# Altium footprint library THERMISTOR.PcbLib: 1 footprints
Each footprint in its own frame and in the unit in brackets; x right, y up, seen from the top. Pads: shape width x height; smd on the part's side, far side on the other; paste and mask are expansions set on the pad; w line width, h text height; cw(c..) or ccw(c..) is an arc to the next point about the centre after c.
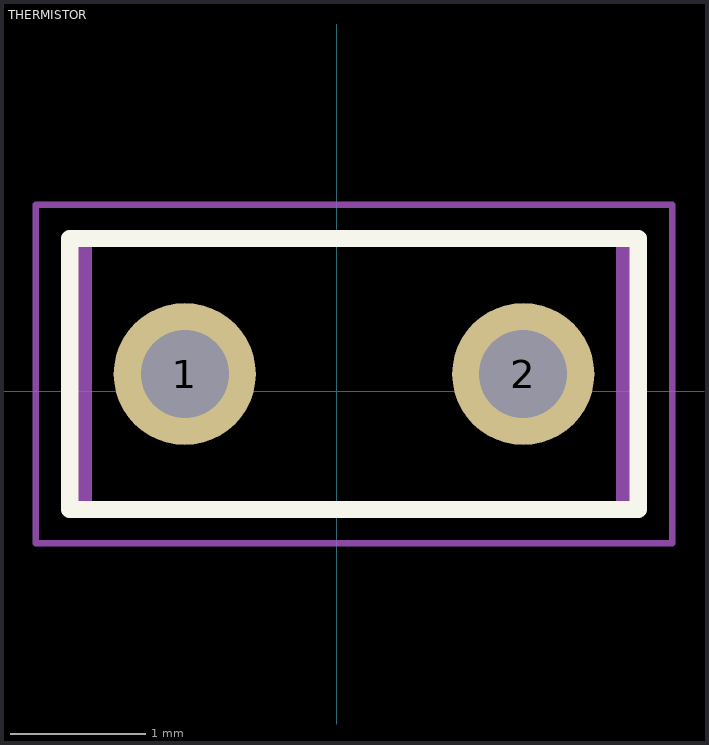
[diagram p0: the footprint, top view; thin cyan lines are the x and y axes]

## THERMISTOR [mm]
pads (2):
  round 1.05 hole 0.65: 1(-1.123,0.127) 2(1.377,0.127)
Top Overlay:
  lines w0.127: -1.973,-0.873 -1.973,1.127 2.227,1.127 2.227,-0.873 -1.973,-0.873
Mechanical 13:
  lines w0.127: -1.873,-0.873 2.127,-0.873 2.127,1.127 -1.873,1.127 -1.873,-0.873
Mechanical 15:
  lines w0.05: -2.223,-1.123 2.477,-1.123 2.477,1.377 -2.223,1.377 -2.223,-1.123